# Altium footprint library final.PcbLib: 69 footprints (part 3 of 5)
Each footprint in its own frame and in the unit in brackets; x right, y up, seen from the top. Pads: shape width x height; smd on the part's side, far side on the other; paste and mask are expansions set on the pad; w line width, h text height; cw(c..) or ccw(c..) is an arc to the next point about the centre after c.
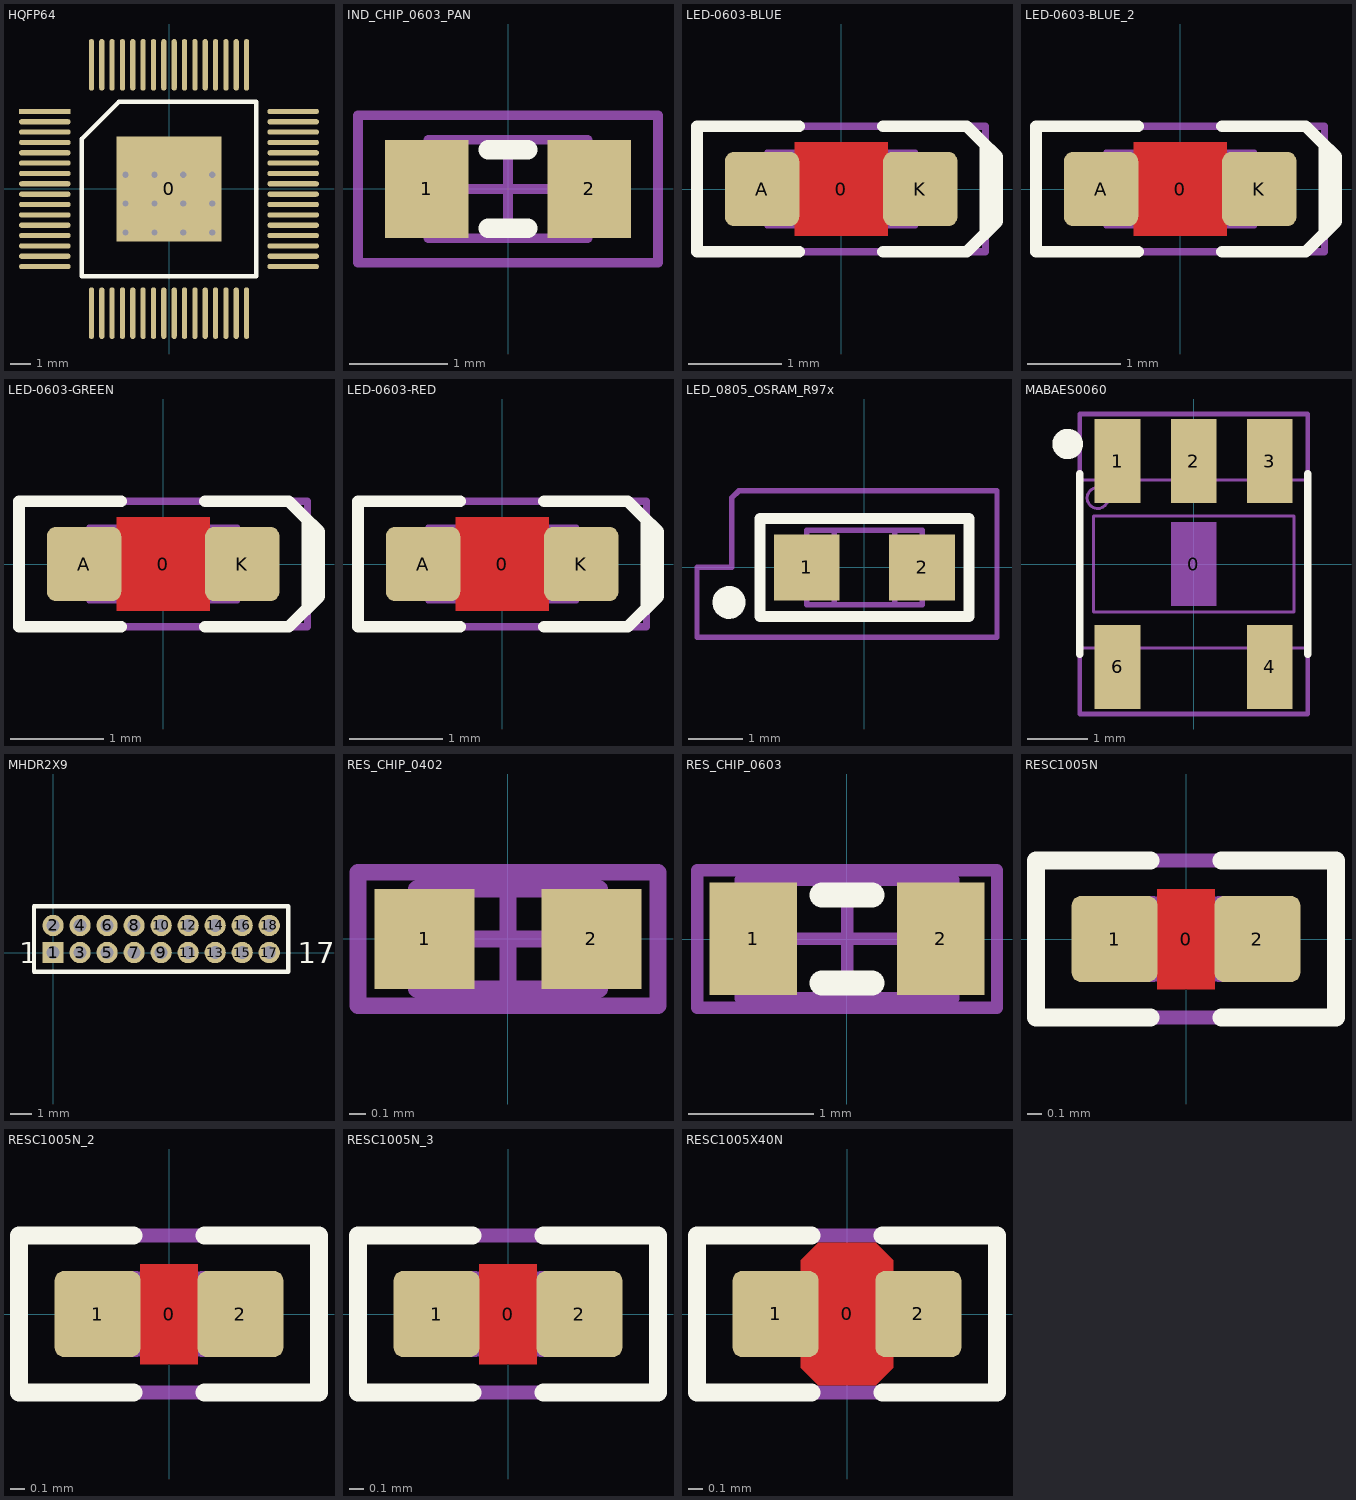
[diagram p2: the footprints below, top view; thin cyan lines are the x and y axes]

## HQFP64 [mm]
height 1.2
pads (65):
  rect 5.08x5.08 smd mask+0.104: 0(0,0)
  rect 2.5x0.25 smd mask+0.05: 1(-6,3.75)
  oval 2.5x0.25 smd mask+0.05: 2(-6,3.25) 3(-6,2.75) 4(-6,2.25) 5(-6,1.75) 6(-6,1.25) 7(-6,0.75) 8(-6,0.25) 9(-6,-0.25) 10(-6,-0.75) 11(-6,-1.25) 12(-6,-1.75) 13(-6,-2.25) 14(-6,-2.75) 15(-6,-3.25) 16(-6,-3.75) 33(6,-3.75) 34(6,-3.25) 35(6,-2.75) 36(6,-2.25) 37(6,-1.75) 38(6,-1.25) 39(6,-0.75) 40(6,-0.25) 41(6,0.25) 42(6,0.75) 43(6,1.25) 44(6,1.75) 45(6,2.25) 46(6,2.75) 47(6,3.25) 48(6,3.75)
  oval 0.25x2.5 smd mask+0.05: 17(-3.75,-6) 18(-3.25,-6) 19(-2.75,-6) 20(-2.25,-6) 21(-1.75,-6) 22(-1.25,-6) 23(-0.75,-6) 24(-0.25,-6) 25(0.25,-6) 26(0.75,-6) 27(1.25,-6) 28(1.75,-6) 29(2.25,-6) 30(2.75,-6) 31(3.25,-6) 32(3.75,-6) 49(3.75,6) 50(3.25,6) 51(2.75,6) 52(2.25,6) 53(1.75,6) 54(1.25,6) 55(0.75,6) 56(0.25,6) 57(-0.25,6) 58(-0.75,6) 59(-1.25,6) 60(-1.75,6) 61(-2.25,6) 62(-2.75,6) 63(-3.25,6) 64(-3.75,6)
via -2.1,-2.1 diameter 0.61 hole 0.305
via -0.703,-2.1 diameter 0.61 hole 0.305
via 0.694,-2.1 diameter 0.61 hole 0.305
via 2.091,-2.1 diameter 0.61 hole 0.305
via 2.091,-0.703 diameter 0.61 hole 0.305
via 2.091,0.694 diameter 0.61 hole 0.305
via -2.1,0.694 diameter 0.61 hole 0.305
via -2.1,-0.703 diameter 0.61 hole 0.305
via 0.694,0.694 diameter 0.61 hole 0.305
via -0.703,0.694 diameter 0.61 hole 0.305
via -0.703,-0.703 diameter 0.61 hole 0.305
via 0.694,-0.703 diameter 0.61 hole 0.305
Top Overlay:
  lines w0.2: -4.215,-4.215 4.215,-4.215 4.215,4.215 -2.43,4.215 -4.215,2.43 -4.215,-4.215
3D body: height 1.01, standoff 0.01, extent -5.791,-5.787 5.79,5.787

## ICK BGA 23 x 23 x 10 [mm] "23 x 23 x 10 mm, heatsink for IC design BGA and others"
height 10
3D body: height 12.01, standoff 2.01, extent -11.625,-11.825 11.375,11.175

## IND_CHIP_0603_PAN [mm]
height 1
pads (2):
  rect 0.85x1 smd: 1(-0.825,0) 2(0.825,0)
Top Overlay:
  lines w0.2: -0.2,-0.4 0.2,-0.4 ; -0.2,0.4 0.2,0.4
Mechanical 13:
  lines w0.1: -0.81,-0.5 -0.81,0.5 0.81,0.5 0.81,-0.5 -0.81,-0.5
Mechanical 15:
  lines w0.1: -0.5,0 0.5,0 ; 0,-0.5 0,0.5 ; -1.525,-0.75 -1.525,0.75 1.525,0.75 1.525,-0.75 -1.525,-0.75
3D body: height 0.8, standoff 0, extent -0.8,-0.4 0.8,0.4

## LED-0603-BLUE [mm]
height 0.8
pads (3):
  round 0.254 on Mech15: 0(0,0)
  rrect25% 0.8x0.8 smd: A(-0.85,0) K(0.85,0)
Top Layer:
  pour cut-out: -0.5,0.5 0.5,0.5 0.5,-0.5 -0.5,-0.5
Top Overlay:
  lines w0.127: -0.45,-0.675 -1.55,-0.675 -1.55,0.675 -0.45,0.675 ; 0.45,-0.675 1.35,-0.675 1.55,-0.475 1.55,0.475 1.35,0.675 0.45,0.675 ; 1.5,0.525 1.675,0.35 1.675,-0.35 1.525,-0.5
Mechanical 13:
  lines w0.05: -0.6,-0.4 -0.6,0.399 0.6,0.4 0.6,-0.4 -0.6,-0.399 ; -0.505,-0.398 -0.505,0.398 ; -0.5,-0.4 -0.8,-0.4 -0.8,0.4 -0.5,0.4 ; 0.5,-0.4 0.8,-0.4 0.8,0.4 0.5,0.4 ; 0.505,-0.398 0.505,0.398 ; -0.599,-0.398 -0.599,0.398 0.599,0.398 0.599,-0.398 -0.599,-0.398
Mechanical 15:
  lines w0.076: -1.55,-0.675 1.55,-0.675 1.55,0.675 -1.55,0.675 -1.55,-0.675
3D body: height 0.9, standoff 0, extent -0.85,-0.45 0.85,0.45

## LED-0603-BLUE_2 [mm]
pads (3):
  round 0.254 on Mech15: 0(0,0)
  rrect25% 0.8x0.8 smd: A(-0.85,0) K(0.85,0)
Top Layer:
  pour cut-out: -0.5,0.5 0.5,0.5 0.5,-0.5 -0.5,-0.5
Top Overlay:
  lines w0.127: -0.45,-0.675 -1.55,-0.675 -1.55,0.675 -0.45,0.675 ; 0.45,-0.675 1.35,-0.675 1.55,-0.475 1.55,0.475 1.35,0.675 0.45,0.675 ; 1.5,0.525 1.675,0.35 1.675,-0.35 1.525,-0.5
Mechanical 13:
  lines w0.05: -0.6,-0.4 -0.6,0.399 0.6,0.4 0.6,-0.4 -0.6,-0.399 ; -0.505,-0.398 -0.505,0.398 ; -0.5,-0.4 -0.8,-0.4 -0.8,0.4 -0.5,0.4 ; 0.5,-0.4 0.8,-0.4 0.8,0.4 0.5,0.4 ; 0.505,-0.398 0.505,0.398 ; -0.599,-0.398 0.599,-0.398 0.599,0.398 -0.599,0.398 -0.599,-0.398
Mechanical 15:
  lines w0.076: -1.55,-0.675 -1.55,0.675 1.55,0.675 1.55,-0.675 -1.55,-0.675
3D body: height 0.9, standoff 0, extent -0.85,-0.45 0.85,0.45

## LED-0603-GREEN [mm]
height 0.8
pads (3):
  round 0.254 on Mech15: 0(0,0)
  rrect25% 0.8x0.8 smd: A(-0.85,0) K(0.85,0)
Top Layer:
  pour cut-out: -0.5,0.5 0.5,0.5 0.5,-0.5 -0.5,-0.5
Top Overlay:
  lines w0.127: -0.45,-0.675 -1.55,-0.675 -1.55,0.675 -0.45,0.675 ; 0.45,-0.675 1.35,-0.675 1.55,-0.475 1.55,0.475 1.35,0.675 0.45,0.675 ; 1.5,0.525 1.675,0.35 1.675,-0.35 1.525,-0.5
Mechanical 13:
  lines w0.05: -0.6,-0.4 -0.6,0.399 0.6,0.4 0.6,-0.4 -0.6,-0.399 ; -0.505,-0.398 -0.505,0.398 ; -0.5,-0.4 -0.8,-0.4 -0.8,0.4 -0.5,0.4 ; 0.5,-0.4 0.8,-0.4 0.8,0.4 0.5,0.4 ; 0.505,-0.398 0.505,0.398 ; -0.599,-0.398 0.599,-0.398 0.599,0.398 -0.599,0.398 -0.599,-0.398
Mechanical 15:
  lines w0.076: -1.55,-0.675 -1.55,0.675 1.55,0.675 1.55,-0.675 -1.55,-0.675
3D body: height 0.75, standoff 0, extent -0.8,-0.4 0.8,0.4

## LED-0603-RED [mm]
height 0.8
pads (3):
  round 0.254 on Mech15: 0(0,0)
  rrect25% 0.8x0.8 smd: A(-0.85,0) K(0.85,0)
Top Layer:
  pour cut-out: -0.5,0.5 0.5,0.5 0.5,-0.5 -0.5,-0.5
Top Overlay:
  lines w0.127: -0.45,-0.675 -1.55,-0.675 -1.55,0.675 -0.45,0.675 ; 0.45,-0.675 1.35,-0.675 1.55,-0.475 1.55,0.475 1.35,0.675 0.45,0.675 ; 1.5,0.525 1.675,0.35 1.675,-0.35 1.525,-0.5
Mechanical 13:
  lines w0.05: -0.6,-0.4 -0.6,0.399 0.6,0.4 0.6,-0.4 -0.6,-0.399 ; -0.505,-0.398 -0.505,0.398 ; -0.5,-0.4 -0.8,-0.4 -0.8,0.4 -0.5,0.4 ; 0.5,-0.4 0.8,-0.4 0.8,0.4 0.5,0.4 ; 0.505,-0.398 0.505,0.398 ; -0.599,-0.398 -0.599,0.398 0.599,0.398 0.599,-0.398 -0.599,-0.398
Mechanical 15:
  lines w0.076: -1.55,-0.675 1.55,-0.675 1.55,0.675 -1.55,0.675 -1.55,-0.675
3D body: height 0.9, standoff 0, extent -0.85,-0.45 0.85,0.45

## LED_0805_OSRAM_R97x [mm]
pads (2):
  rect 1.2x1.2 smd: 1(-1.05,0) 2(1.05,0)
Top Overlay:
  circle w0.3: c-2.466,-0.635 r0.15
  lines w0.2: -1.905,-0.889 -1.905,-0.645 -1.905,0.889 1.905,0.889 1.905,-0.889 -1.905,-0.889
Mechanical 13:
  lines w0.1: -0.55,-0.675 -0.55,0.675 ; 0.55,-0.675 0.55,0.675 ; -1.05,-0.675 1.05,-0.675 1.05,0.675 -1.05,0.675 -1.05,-0.675
Mechanical 15:
  lines w0.1: -3.048,-1.27 2.413,-1.27 2.413,1.397 -2.286,1.397 -2.413,1.27 -2.413,0 -3.048,0 -3.048,-1.27
3D body: height 0.8, standoff 0, extent -1,-0.6 1,0.6

## MABAES0060 [mm]
height 2.8
pads (6):
  rect 0.76x1.4 on Mech14 mask+0.1: 0(0,0)
  rect 0.76x1.4 smd mask+0.1: 1(-1.27,1.715) 2(0,1.715) 3(1.27,1.715) 4(1.27,-1.715) 6(-1.27,-1.715)
Top Overlay:
  circle w0.254: c-2.1,2 r0.127
  lines w0.127: -1.9,-1.5 -1.9,1.5 ; 1.9,-1.5 1.9,1.5
Mechanical 13:
  circle w0.05: c-1.6,1.1 r0.175
  lines w0.05: -1.45,-1.791 -1.05,-1.791 ; -1.45,-1.7 -1.05,-1.7 ; -1.45,-1.694 -1.05,-1.694 ; -1.45,-1.444 -1.05,-1.444 ; -1.45,-1.4 -1.45,-2 -1.05,-2 -1.05,-1.4 ; -1.45,1.4 -1.45,2 -1.05,2 -1.05,1.4 ; -1.45,1.444 -1.05,1.444 ; -1.45,1.694 -1.05,1.694 ; -1.45,1.7 -1.05,1.7 ; -1.45,1.791 -1.05,1.791 ; -0.2,1.4 -0.2,2 0.2,2 0.2,1.4 ; -0.2,1.444 0.2,1.444 ; -0.2,1.7 0.2,1.7 ; -0.2,1.694 0.2,1.694 ; -0.2,1.791 0.2,1.791 ; 1.05,-1.791 1.45,-1.791 ; 1.05,-1.7 1.45,-1.7 ; 1.05,-1.694 1.45,-1.694 ; 1.05,-1.444 1.45,-1.444 ; 1.05,-1.4 1.05,-2 1.45,-2 1.45,-1.4 ; 1.05,1.4 1.05,2 1.45,2 1.45,1.4 ; 1.05,1.444 1.45,1.444 ; 1.05,1.694 1.45,1.694 ; 1.05,1.7 1.45,1.7 ; 1.05,1.791 1.45,1.791 ; -1.9,-1.4 -1.9,1.4 1.9,1.4 1.9,-1.4 -1.9,-1.4 ; -1.669,-0.8 -1.669,0.8 1.669,0.8 1.669,-0.8 -1.669,-0.8
  text ".Designator" at 1.1,0.3 h0.75
Mechanical 14:
  lines w0.076: -1.9,-2.5 -1.9,2.5 1.9,2.5 1.9,-2.5 -1.9,-2.5
3D body: height 0.64, standoff 0, extent -1.9,-1.5 1.9,1.5
3D body: height 2.8, standoff 0.64, extent -1.7,-1 1.7,1

## MHDR2X9 [mm] "Connector; Header; 9x2 Position"
pads (18):
  rect 1x1 hole 0.6: 1(0,0)
  round 1 hole 0.6: 2(0,1.27) 3(1.27,0) 4(1.27,1.27) 5(2.54,0) 6(2.54,1.27) 7(3.81,0) 8(3.81,1.27) 9(5.08,0) 10(5.08,1.27) 11(6.35,0) 12(6.35,1.27) 13(7.62,0) 14(7.62,1.27) 15(8.89,0) 16(8.89,1.27) 17(10.16,0) 18(10.16,1.27)
Top Overlay:
  lines w0.2: -0.9,-0.9 11.06,-0.9 11.06,2.17 -0.9,2.17 -0.9,-0.9
  text "1" at -1.6,-0.508 h1
  text "17" at 11.5,-0.508 h1

## RES_CHIP_0402 [mm] "Chip Resistor, Body 1.1x0.5mm, IPC High Density"
height 2.54
pads (2):
  rect 0.6x0.6 smd: 1(-0.5,0) 2(0.5,0)
Mechanical 13:
  lines w0.1: -0.55,-0.3 -0.55,0.3 0.55,0.3 0.55,-0.3 -0.55,-0.3
Mechanical 15:
  lines w0.1: -0.3,0 0.3,0 ; 0,-0.3 0,0.3 ; -0.9,-0.4 -0.9,0.4 0.9,0.4 0.9,-0.4 -0.9,-0.4
3D body: height 0.35, standoff 0, extent -0.501,-0.25 0.499,0.25

## RES_CHIP_0603 [mm] "Chip Resistor, Body 1.6x0.8mm, IPC High Density"
height 0.9
pads (2):
  rect 0.7x0.9 smd: 1(-0.75,0) 2(0.75,0)
Top Overlay:
  lines w0.2: -0.2,-0.35 0.2,-0.35 ; -0.2,0.35 0.2,0.35
Mechanical 13:
  lines w0.1: -0.85,-0.475 -0.85,0.475 0.85,0.475 0.85,-0.475 -0.85,-0.475
Mechanical 15:
  lines w0.1: -0.475,0 0.475,0 ; 0,-0.475 0,0.475 ; -1.2,-0.55 -1.2,0.55 1.2,0.55 1.2,-0.55 -1.2,-0.55
3D body: height 0.45, standoff 0, extent -0.8,-0.4 0.8,0.4

## RESC1005N [mm] "Chip Resistor, Body 1.0x0.5mm, EIA 0402, IPC Medium Density"
height 0.4
pads (3):
  round 0.2 on Mech14: 0(0,0)
  rrect20% 0.6x0.6 smd: 1(-0.5,0) 2(0.5,0)
Top Layer:
  pour cut-out: -0.2,0.35 0.2,0.35 0.2,-0.35 -0.2,-0.35
Top Overlay:
  lines w0.127: -0.25,-0.55 -1.05,-0.55 -1.05,0.55 -0.25,0.55 ; 0.25,-0.55 1.05,-0.55 1.05,0.55 0.25,0.55
Mechanical 13:
  lines w0.05: 0.225,-0.273 -0.225,-0.274 ; -0.225,-0.275 -0.225,0.275 -0.525,0.275 -0.525,-0.275 -0.225,-0.275 ; -0.225,-0.274 0.225,-0.274 ; 0.225,-0.275 0.225,0.275 0.525,0.275 0.525,-0.275 0.225,-0.275 ; -0.225,0.274 0.225,0.274 -0.225,0.274
Mechanical 14:
  lines w0.1: -1.05,-0.55 1.05,-0.55 1.05,0.55 -1.05,0.55 -1.05,-0.55
3D body: height 0.4, standoff 0, extent -0.525,-0.275 0.525,0.275

## RESC1005N_2 [mm]
pads (3):
  round 0.2 on Mech14: 0(0,0)
  rrect20% 0.6x0.6 smd: 1(-0.5,0) 2(0.5,0)
Top Layer:
  pour cut-out: -0.2,0.35 0.2,0.35 0.2,-0.35 -0.2,-0.35
Top Overlay:
  lines w0.127: -0.25,-0.55 -1.05,-0.55 -1.05,0.55 -0.25,0.55 ; 0.25,-0.55 1.05,-0.55 1.05,0.55 0.25,0.55
Mechanical 13:
  lines w0.05: 0.225,-0.273 -0.225,-0.274 ; -0.225,-0.275 -0.225,0.275 -0.525,0.275 -0.525,-0.275 -0.225,-0.275 ; -0.225,-0.274 0.225,-0.274 ; 0.225,-0.275 0.225,0.275 0.525,0.275 0.525,-0.275 0.225,-0.275 ; -0.225,0.274 0.225,0.274 -0.225,0.274
Mechanical 14:
  lines w0.1: -1.05,-0.55 1.05,-0.55 1.05,0.55 -1.05,0.55 -1.05,-0.55
3D body: height 0.4, standoff 0, extent -0.525,-0.275 0.525,0.275

## RESC1005N_3 [mm]
pads (3):
  round 0.2 on Mech14: 0(0,0)
  rrect20% 0.6x0.6 smd: 1(-0.5,0) 2(0.5,0)
Top Layer:
  pour cut-out: -0.2,0.35 0.2,0.35 0.2,-0.35 -0.2,-0.35
Top Overlay:
  lines w0.127: -0.25,-0.55 -1.05,-0.55 -1.05,0.55 -0.25,0.55 ; 0.25,-0.55 1.05,-0.55 1.05,0.55 0.25,0.55
Mechanical 13:
  lines w0.05: 0.225,-0.273 -0.225,-0.274 ; -0.225,-0.274 0.225,-0.274 ; -0.225,-0.275 -0.525,-0.275 -0.525,0.275 -0.225,0.275 -0.225,-0.275 ; 0.225,-0.275 0.525,-0.275 0.525,0.275 0.225,0.275 0.225,-0.275 ; -0.225,0.274 0.225,0.274 -0.225,0.274
Mechanical 14:
  lines w0.1: -1.05,-0.55 -1.05,0.55 1.05,0.55 1.05,-0.55 -1.05,-0.55
3D body: height 0.4, standoff 0, extent -0.525,-0.275 0.525,0.275

## RESC1005X40N [mm] "Chip Resistor, Body 1.0x0.5mm, EIA 0402, IPC Medium Density"
height 0.4
pads (3):
  round 0.2 on Mech15: 0(0,0)
  rrect20% 0.6x0.6 smd: 1(-0.5,0) 2(0.5,0)
Top Layer:
  pour cut-out: -0.325,0.375 -0.2,0.5 0.2,0.5 0.325,0.375 0.325,-0.375 0.2,-0.5 -0.2,-0.5 -0.325,-0.375
Top Overlay:
  lines w0.127: -0.25,-0.55 -1.05,-0.55 -1.05,0.55 -0.25,0.55 ; 0.25,-0.55 1.05,-0.55 1.05,0.55 0.25,0.55
Mechanical 13:
  lines w0.05: 0.225,-0.274 -0.225,-0.274 0.225,-0.273 ; -0.525,-0.275 -0.525,0.275 -0.225,0.275 -0.225,-0.275 -0.525,-0.275 ; -0.225,0.274 0.225,0.274 -0.225,0.274 ; 0.225,-0.275 0.525,-0.275 0.525,0.275 0.225,0.275 0.225,-0.275
Mechanical 15:
  lines w0.1: -1.05,-0.55 -1.05,0.55 1.05,0.55 1.05,-0.55 -1.05,-0.55
3D body: height 0.4, standoff 0, extent -0.525,-0.275 0.525,0.275